# EAGLE library part ADA4938-2 (library mr_radar)
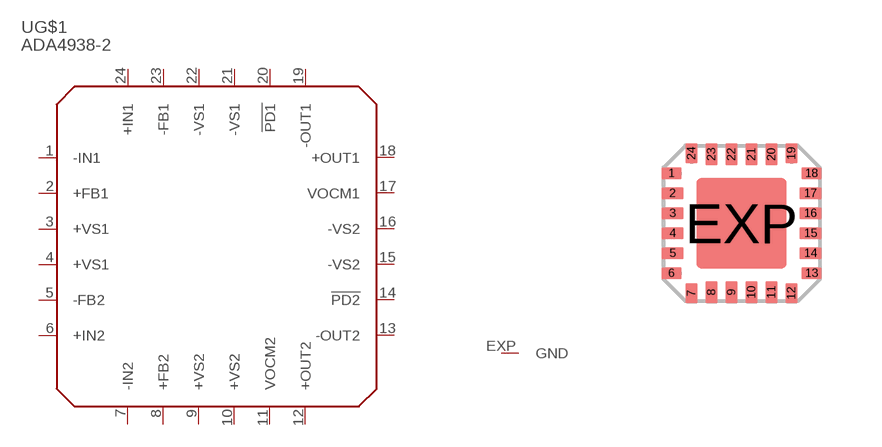
[diagram p5: symbol with the pads of LFCSP24; footprint LFCSP24]

Designator prefix -; gates G$1=ADA4938-2 G$2=GND

## ADA4938-2  [LFCSP24]
1  G$1:-IN1  in
2  G$1:+FB1  out
3  G$1:+VS1  in
4  G$1:+VS1  in
5  G$1:-FB2  out
6  G$1:+IN2  in
7  G$1:-IN2  in
8  G$1:+FB2  out
9  G$1:+VS2  in
10  G$1:+VS2  in
11  G$1:VOCM2  out
12  G$1:+OUT2  out
13  G$1:-OUT2  out
14  G$1:!PD2  in
15  G$1:-VS2  in
16  G$1:-VS2  in
17  G$1:VOCM1  out
18  G$1:+OUT1  out
19  G$1:-OUT1  out
20  G$1:!PD1  in
21  G$1:-VS1  in
22  G$1:-VS1  in
23  G$1:-FB1  out
24  G$1:+IN1  in
EXP  G$2:GND  pwr

## Footprint LFCSP24 (pad centres in mm)
24-Lead Lead Frame Chip Scale Package 4 mm × 4 mm (CP-24) Source: www.analog.com .. 3832984220209AD8133_0.pdf
smd 0.5 x 0.3: 1 -1.75,1.25; 6 -1.75,-1.25; 13 1.75,-1.25; 18 1.75,1.25
smd 0.55 x 0.3: 2 -1.725,0.75; 3 -1.725,0.25; 4 -1.725,-0.25; 5 -1.725,-0.75; 14 1.725,-0.75; 15 1.725,-0.25; 16 1.725,0.25; 17 1.725,0.75
smd 0.3 x 0.5: 7 -1.25,-1.75; 12 1.25,-1.75; 19 1.25,1.75; 24 -1.25,1.75
smd 0.3 x 0.55: 8 -0.75,-1.725; 9 -0.25,-1.725; 10 0.25,-1.725; 11 0.75,-1.725; 20 0.75,1.725; 21 0.25,1.725; 22 -0.25,1.725; 23 -0.75,1.725
smd 2.25 x 2.25: EXP 0,0